# Altium schematic symbol library SCH - CONNECTORS - SAMTEC - IPL1-113-XX-X-D-X.SCHLIB: 1 symbol
Pins are listed as number, name and electrical type; pins without a type are passive.

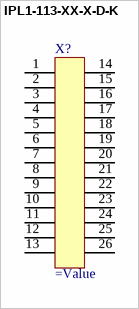
[diagram p0: symbol IPL1-113-XX-X-D-K]

## IPL1-113-XX-X-D-K
designator X?
2.54mm Double Row Terminal Assembly; AN: 30828; Mixed: SMT; H-ART: IPL1-113-02-L-D-K; Temperature-Range: -55/+125; Extra: Connector Header IPL1, 2-row 26pos, key polarization, SMT 0°; Case: IPL1; HelpURL: b:\AD\adlib\datasheet\Samtec\IPL1-SMT\
footprint IPL1-113-02-L-D-K
pins: 1, 2, 3, 4, 5, 6, 7, 8, 9, 10, 11, 12, 13, 14, 15, 16, 17, 18, 19, 20, 21, 22, 23, 24, 25, 26
1 alternate drawing of the same symbol